# EAGLE library part 74*595 (library SW_Logic)
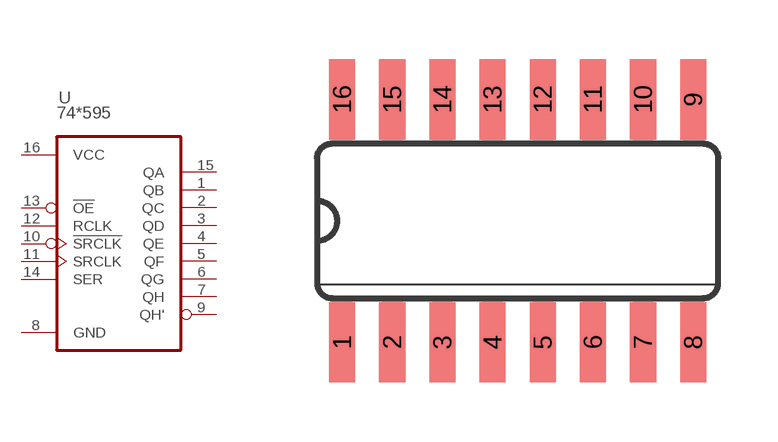
[diagram p3: symbol with the pads of SO16; footprint SO16]

Designator prefix U

## 74595 (CATEGORY: Logic IC; MFGS: Texas Instruments; MPNS: CD74HC595M96; PACKAGE: SOIC-16)  [SO16]
1  QB  out
2  QC  out
3  QD  out
4  QE  out
5  QF  out
6  QG  out
7  QH  out
8  GND  pwr
9  QH'  out
10  !SRCLK  in
11  SRCLK  in
12  RCLK  in
13  !OE  in
14  SER  in
15  QA  out
16  VCC  pwr

## Footprint SO16 (pad centres in mm)
Small Outline package 150 mil
smd 0.66 x 2.032: 1 -4.445,-3.073; 2 -3.175,-3.073; 3 -1.905,-3.073; 4 -0.635,-3.073; 5 0.635,-3.073; 6 1.905,-3.073; 7 3.175,-3.073; 8 4.445,-3.073; 9 4.445,3.073; 10 3.175,3.073; 11 1.905,3.073; 12 0.635,3.073; 13 -0.635,3.073; 14 -1.905,3.073; 15 -3.175,3.073; 16 -4.445,3.073